# EAGLE library part MAX*CWE (library DAC)
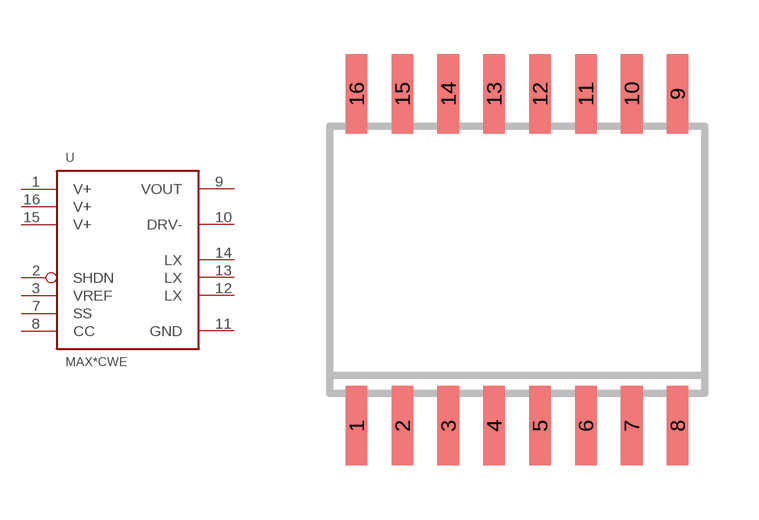
[diagram p33: symbol with the pads of SO-16W; footprint SO-16W]

Designator prefix U

## MAXCWE39  [SO-16W]
1  V+  pwr
2  SHDN  in
3  VREF  hiz
7  SS  in
8  CC  in
9  VOUT  out
10  DRV-  in
11  GND  sup
12  LX  in
13  LX  in
14  LX  in
15  V+  pwr
16  V+  pwr

## Footprint SO-16W (pad centres in mm)
smd 0.6 x 2.2: 1 -4.445,-4.6; 2 -3.175,-4.6; 3 -1.905,-4.6; 4 -0.635,-4.6; 5 0.635,-4.6; 6 1.905,-4.6; 7 3.175,-4.6; 8 4.445,-4.6; 9 4.445,4.6; 10 3.175,4.6; 11 1.905,4.6; 12 0.635,4.6; 13 -0.635,4.6; 14 -1.905,4.6; 15 -3.175,4.6; 16 -4.445,4.6